# Altium schematic symbol library MK26FN2M0VLQ18.SchLib: 1 symbol
Pins are listed as number, name and electrical type; pins without a type are passive.

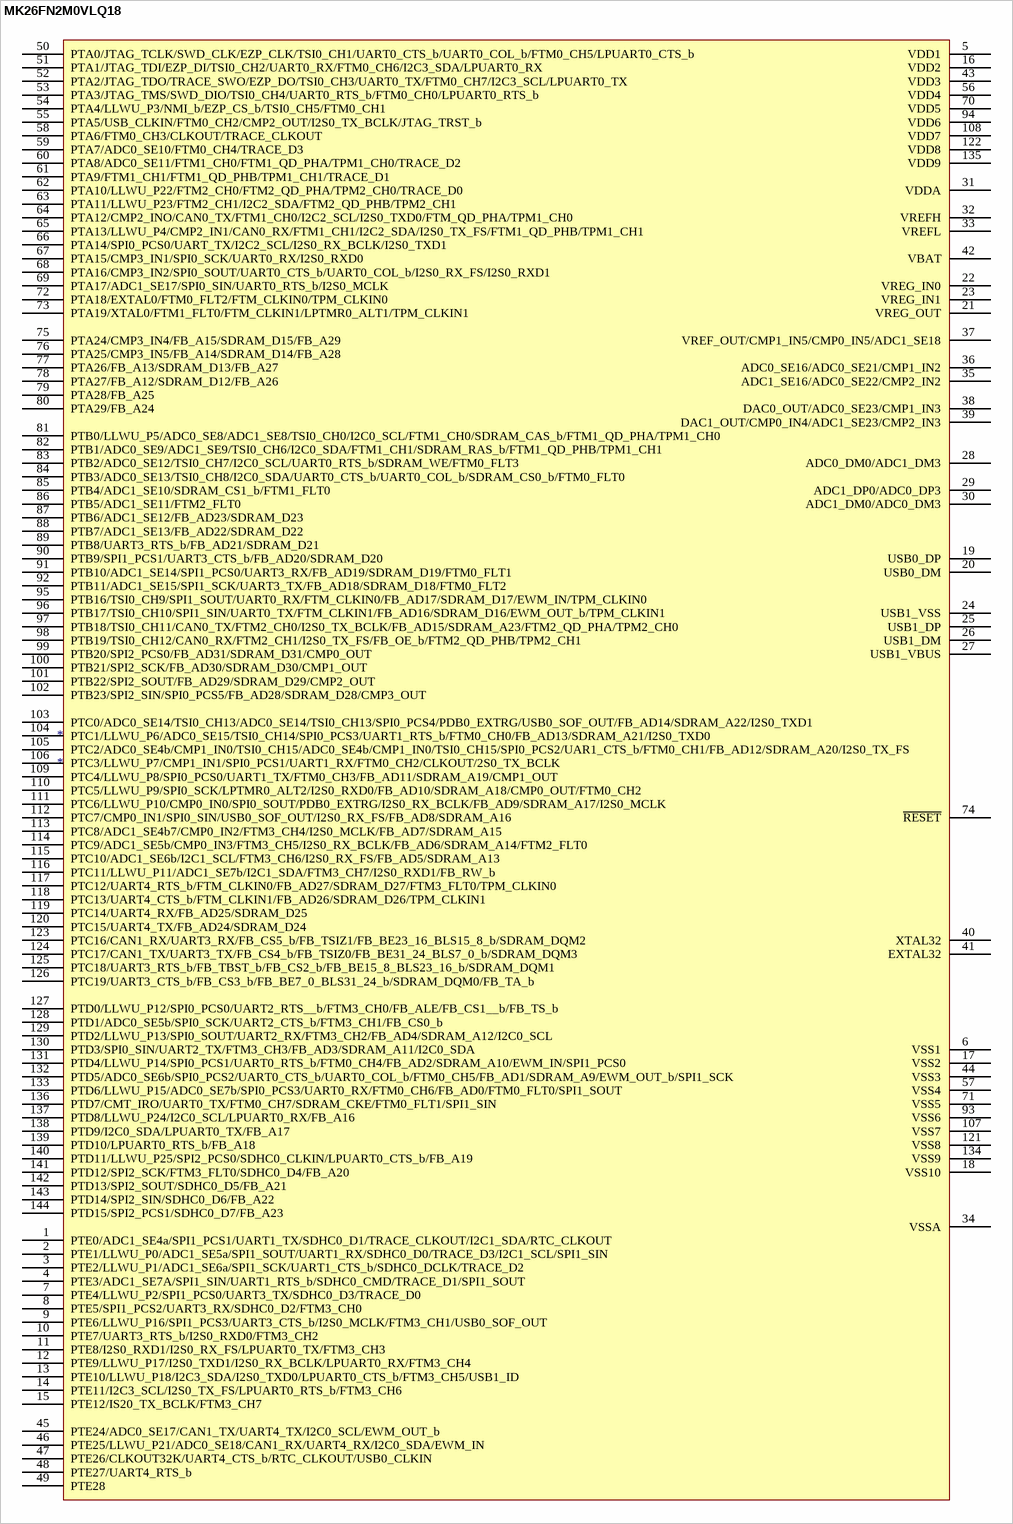
[diagram p0: symbol MK26FN2M0VLQ18]

## MK26FN2M0VLQ18
designator *
pins: 1 PTE0/ADC1_SE4a/SPI1_PCS1/UART1_TX/SDHC0_D1/TRACE_CLKOUT/I2C1_SDA/RTC_CLKOUT, 2 PTE1/LLWU_P0/ADC1_SE5a/SPI1_SOUT/UART1_RX/SDHC0_D0/TRACE_D3/I2C1_SCL/SPI1_SIN, 3 PTE2/LLWU_P1/ADC1_SE6a/SPI1_SCK/UART1_CTS_b/SDHC0_DCLK/TRACE_D2, 4 PTE3/ADC1_SE7A/SPI1_SIN/UART1_RTS_b/SDHC0_CMD/TRACE_D1/SPI1_SOUT, 5 VDD1, 6 VSS1, 7 PTE4/LLWU_P2/SPI1_PCS0/UART3_TX/SDHC0_D3/TRACE_D0, 8 PTE5/SPI1_PCS2/UART3_RX/SDHC0_D2/FTM3_CH0, 9 PTE6/LLWU_P16/SPI1_PCS3/UART3_CTS_b/I2S0_MCLK/FTM3_CH1/USB0_SOF_OUT, 10 PTE7/UART3_RTS_b/I2S0_RXD0/FTM3_CH2, 11 PTE8/I2S0_RXD1/I2S0_RX_FS/LPUART0_TX/FTM3_CH3, 12 PTE9/LLWU_P17/I2S0_TXD1/I2S0_RX_BCLK/LPUART0_RX/FTM3_CH4, 13 PTE10/LLWU_P18/I2C3_SDA/I2S0_TXD0/LPUART0_CTS_b/FTM3_CH5/USB1_ID, 14 PTE11/I2C3_SCL/I2S0_TX_FS/LPUART0_RTS_b/FTM3_CH6, 15 PTE12/IS20_TX_BCLK/FTM3_CH7, 16 VDD2, 17 VSS2, 18 VSS10, 19 USB0_DP, 20 USB0_DM, 21 VREG_OUT, 22 VREG_IN0, 23 VREG_IN1, 24 USB1_VSS, 25 USB1_DP, 26 USB1_DM, 27 USB1_VBUS, 28 ADC0_DM0/ADC1_DM3, 29 ADC1_DP0/ADC0_DP3, 30 ADC1_DM0/ADC0_DM3, 31 VDDA, 32 VREFH, 33 VREFL, 34 VSSA, 35 ADC1_SE16/ADC0_SE22/CMP2_IN2, 36 ADC0_SE16/ADC0_SE21/CMP1_IN2, 37 VREF_OUT/CMP1_IN5/CMP0_IN5/ADC1_SE18, 38 DAC0_OUT/ADC0_SE23/CMP1_IN3, 39 DAC1_OUT/CMP0_IN4/ADC1_SE23/CMP2_IN3, 40 XTAL32, 41 EXTAL32, 42 VBAT, 43 VDD3, 44 VSS3, 45 PTE24/ADC0_SE17/CAN1_TX/UART4_TX/I2C0_SCL/EWM_OUT_b, 46 PTE25/LLWU_P21/ADC0_SE18/CAN1_RX/UART4_RX/I2C0_SDA/EWM_IN, 47 PTE26/CLKOUT32K/UART4_CTS_b/RTC_CLKOUT/USB0_CLKIN, 48 PTE27/UART4_RTS_b, 49 PTE28, 50 PTA0/JTAG_TCLK/SWD_CLK/EZP_CLK/TSI0_CH1/UART0_CTS_b/UART0_COL_b/FTM0_CH5/LPUART0_CTS_b, 51 PTA1/JTAG_TDI/EZP_DI/TSI0_CH2/UART0_RX/FTM0_CH6/I2C3_SDA/LPUART0_RX, 52 PTA2/JTAG_TDO/TRACE_SWO/EZP_DO/TSI0_CH3/UART0_TX/FTM0_CH7/I2C3_SCL/LPUART0_TX, 53 PTA3/JTAG_TMS/SWD_DIO/TSI0_CH4/UART0_RTS_b/FTM0_CH0/LPUART0_RTS_b, 54 PTA4/LLWU_P3/NMI_b/EZP_CS_b/TSI0_CH5/FTM0_CH1, 55 PTA5/USB_CLKIN/FTM0_CH2/CMP2_OUT/I2S0_TX_BCLK/JTAG_TRST_b, 56 VDD4, 57 VSS4, 58 PTA6/FTM0_CH3/CLKOUT/TRACE_CLKOUT, 59 PTA7/ADC0_SE10/FTM0_CH4/TRACE_D3, 60 PTA8/ADC0_SE11/FTM1_CH0/FTM1_QD_PHA/TPM1_CH0/TRACE_D2, 61 PTA9/FTM1_CH1/FTM1_QD_PHB/TPM1_CH1/TRACE_D1, 62 PTA10/LLWU_P22/FTM2_CH0/FTM2_QD_PHA/TPM2_CH0/TRACE_D0, 63 PTA11/LLWU_P23/FTM2_CH1/I2C2_SDA/FTM2_QD_PHB/TPM2_CH1, 64 PTA12/CMP2_INO/CAN0_TX/FTM1_CH0/I2C2_SCL/I2S0_TXD0/FTM_QD_PHA/TPM1_CH0, 65 PTA13/LLWU_P4/CMP2_IN1/CAN0_RX/FTM1_CH1/I2C2_SDA/I2S0_TX_FS/FTM1_QD_PHB/TPM1_CH1, 66 PTA14/SPI0_PCS0/UART_TX/I2C2_SCL/I2S0_RX_BCLK/I2S0_TXD1, 67 PTA15/CMP3_IN1/SPI0_SCK/UART0_RX/I2S0_RXD0, 68 PTA16/CMP3_IN2/SPI0_SOUT/UART0_CTS_b/UART0_COL_b/I2S0_RX_FS/I2S0_RXD1, 69 PTA17/ADC1_SE17/SPI0_SIN/UART0_RTS_b/I2S0_MCLK, 70 VDD5, 71 VSS5, 72 PTA18/EXTAL0/FTM0_FLT2/FTM_CLKIN0/TPM_CLKIN0, 73 PTA19/XTAL0/FTM1_FLT0/FTM_CLKIN1/LPTMR0_ALT1/TPM_CLKIN1, 74 ~{RESET}, 75 PTA24/CMP3_IN4/FB_A15/SDRAM_D15/FB_A29, 76 PTA25/CMP3_IN5/FB_A14/SDRAM_D14/FB_A28, 77 PTA26/FB_A13/SDRAM_D13/FB_A27, 78 PTA27/FB_A12/SDRAM_D12/FB_A26, 79 PTA28/FB_A25, 80 PTA29/FB_A24, 81 PTB0/LLWU_P5/ADC0_SE8/ADC1_SE8/TSI0_CH0/I2C0_SCL/FTM1_CH0/SDRAM_CAS_b/FTM1_QD_PHA/TPM1_CH0, 82 PTB1/ADC0_SE9/ADC1_SE9/TSI0_CH6/I2C0_SDA/FTM1_CH1/SDRAM_RAS_b/FTM1_QD_PHB/TPM1_CH1, 83 PTB2/ADC0_SE12/TSI0_CH7/I2C0_SCL/UART0_RTS_b/SDRAM_WE/FTM0_FLT3, 84 PTB3/ADC0_SE13/TSI0_CH8/I2C0_SDA/UART0_CTS_b/UART0_COL_b/SDRAM_CS0_b/FTM0_FLT0, 85 PTB4/ADC1_SE10/SDRAM_CS1_b/FTM1_FLT0, 86 PTB5/ADC1_SE11/FTM2_FLT0, 87 PTB6/ADC1_SE12/FB_AD23/SDRAM_D23, 88 PTB7/ADC1_SE13/FB_AD22/SDRAM_D22, 89 PTB8/UART3_RTS_b/FB_AD21/SDRAM_D21, 90 PTB9/SPI1_PCS1/UART3_CTS_b/FB_AD20/SDRAM_D20, 91 PTB10/ADC1_SE14/SPI1_PCS0/UART3_RX/FB_AD19/SDRAM_D19/FTM0_FLT1, 92 PTB11/ADC1_SE15/SPI1_SCK/UART3_TX/FB_AD18/SDRAM_D18/FTM0_FLT2, 93 VSS6, 94 VDD6, 95 PTB16/TSI0_CH9/SPI1_SOUT/UART0_RX/FTM_CLKIN0/FB_AD17/SDRAM_D17/EWM_IN/TPM_CLKIN0, 96 PTB17/TSI0_CH10/SPI1_SIN/UART0_TX/FTM_CLKIN1/FB_AD16/SDRAM_D16/EWM_OUT_b/TPM_CLKIN1, 97 PTB18/TSI0_CH11/CAN0_TX/FTM2_CH0/I2S0_TX_BCLK/FB_AD15/SDRAM_A23/FTM2_QD_PHA/TPM2_CH0, 98 PTB19/TSI0_CH12/CAN0_RX/FTM2_CH1/I2S0_TX_FS/FB_OE_b/FTM2_QD_PHB/TPM2_CH1, 99 PTB20/SPI2_PCS0/FB_AD31/SDRAM_D31/CMP0_OUT, 100 PTB21/SPI2_SCK/FB_AD30/SDRAM_D30/CMP1_OUT, 101 PTB22/SPI2_SOUT/FB_AD29/SDRAM_D29/CMP2_OUT, 102 PTB23/SPI2_SIN/SPI0_PCS5/FB_AD28/SDRAM_D28/CMP3_OUT, 103 PTC0/ADC0_SE14/TSI0_CH13/ADC0_SE14/TSI0_CH13/SPI0_PCS4/PDB0_EXTRG/USB0_SOF_OUT/FB_AD14/SDRAM_A22/I2S0_TXD1, 104 PTC1/LLWU_P6/ADC0_SE15/TSI0_CH14/SPI0_PCS3/UART1_RTS_b/FTM0_CH0/FB_AD13/SDRAM_A21/I2S0_TXD0, 105 PTC2/ADC0_SE4b/CMP1_IN0/TSI0_CH15/ADC0_SE4b/CMP1_IN0/TSI0_CH15/SPI0_PCS2/UAR1_CTS_b/FTM0_CH1/FB_AD12/SDRAM_A20/I2S0_TX_FS, 106 PTC3/LLWU_P7/CMP1_IN1/SPI0_PCS1/UART1_RX/FTM0_CH2/CLKOUT/2S0_TX_BCLK, 107 VSS7, 108 VDD7, 109 PTC4/LLWU_P8/SPI0_PCS0/UART1_TX/FTM0_CH3/FB_AD11/SDRAM_A19/CMP1_OUT, 110 PTC5/LLWU_P9/SPI0_SCK/LPTMR0_ALT2/I2S0_RXD0/FB_AD10/SDRAM_A18/CMP0_OUT/FTM0_CH2, 111 PTC6/LLWU_P10/CMP0_IN0/SPI0_SOUT/PDB0_EXTRG/I2S0_RX_BCLK/FB_AD9/SDRAM_A17/I2S0_MCLK, 112 PTC7/CMP0_IN1/SPI0_SIN/USB0_SOF_OUT/I2S0_RX_FS/FB_AD8/SDRAM_A16, 113 PTC8/ADC1_SE4b7/CMP0_IN2/FTM3_CH4/I2S0_MCLK/FB_AD7/SDRAM_A15, 114 PTC9/ADC1_SE5b/CMP0_IN3/FTM3_CH5/I2S0_RX_BCLK/FB_AD6/SDRAM_A14/FTM2_FLT0, 115 PTC10/ADC1_SE6b/I2C1_SCL/FTM3_CH6/I2S0_RX_FS/FB_AD5/SDRAM_A13, 116 PTC11/LLWU_P11/ADC1_SE7b/I2C1_SDA/FTM3_CH7/I2S0_RXD1/FB_RW_b, 117 PTC12/UART4_RTS_b/FTM_CLKIN0/FB_AD27/SDRAM_D27/FTM3_FLT0/TPM_CLKIN0, 118 PTC13/UART4_CTS_b/FTM_CLKIN1/FB_AD26/SDRAM_D26/TPM_CLKIN1, 119 PTC14/UART4_RX/FB_AD25/SDRAM_D25, 120 PTC15/UART4_TX/FB_AD24/SDRAM_D24, 121 VSS8, 122 VDD8, 123 PTC16/CAN1_RX/UART3_RX/FB_CS5_b/FB_TSIZ1/FB_BE23_16_BLS15_8_b/SDRAM_DQM2, 124 PTC17/CAN1_TX/UART3_TX/FB_CS4_b/FB_TSIZ0/FB_BE31_24_BLS7_0_b/SDRAM_DQM3, 125 PTC18/UART3_RTS_b/FB_TBST_b/FB_CS2_b/FB_BE15_8_BLS23_16_b/SDRAM_DQM1, 126 PTC19/UART3_CTS_b/FB_CS3_b/FB_BE7_0_BLS31_24_b/SDRAM_DQM0/FB_TA_b, 127 PTD0/LLWU_P12/SPI0_PCS0/UART2_RTS__b/FTM3_CH0/FB_ALE/FB_CS1__b/FB_TS_b, 128 PTD1/ADC0_SE5b/SPI0_SCK/UART2_CTS_b/FTM3_CH1/FB_CS0_b, 129 PTD2/LLWU_P13/SPI0_SOUT/UART2_RX/FTM3_CH2/FB_AD4/SDRAM_A12/I2C0_SCL, 130 PTD3/SPI0_SIN/UART2_TX/FTM3_CH3/FB_AD3/SDRAM_A11/I2C0_SDA, 131 PTD4/LLWU_P14/SPI0_PCS1/UART0_RTS_b/FTM0_CH4/FB_AD2/SDRAM_A10/EWM_IN/SPI1_PCS0, 132 PTD5/ADC0_SE6b/SPI0_PCS2/UART0_CTS_b/UART0_COL_b/FTM0_CH5/FB_AD1/SDRAM_A9/EWM_OUT_b/SPI1_SCK, 133 PTD6/LLWU_P15/ADC0_SE7b/SPI0_PCS3/UART0_RX/FTM0_CH6/FB_AD0/FTM0_FLT0/SPI1_SOUT, 134 VSS9, 135 VDD9, 136 PTD7/CMT_IRO/UART0_TX/FTM0_CH7/SDRAM_CKE/FTM0_FLT1/SPI1_SIN, 137 PTD8/LLWU_P24/I2C0_SCL/LPUART0_RX/FB_A16, 138 PTD9/I2C0_SDA/LPUART0_TX/FB_A17, 139 PTD10/LPUART0_RTS_b/FB_A18, 140 PTD11/LLWU_P25/SPI2_PCS0/SDHC0_CLKIN/LPUART0_CTS_b/FB_A19, 141 PTD12/SPI2_SCK/FTM3_FLT0/SDHC0_D4/FB_A20, 142 PTD13/SPI2_SOUT/SDHC0_D5/FB_A21, 143 PTD14/SPI2_SIN/SDHC0_D6/FB_A22, 144 PTD15/SPI2_PCS1/SDHC0_D7/FB_A23